# EAGLE library part MAX1811 (library dooba)
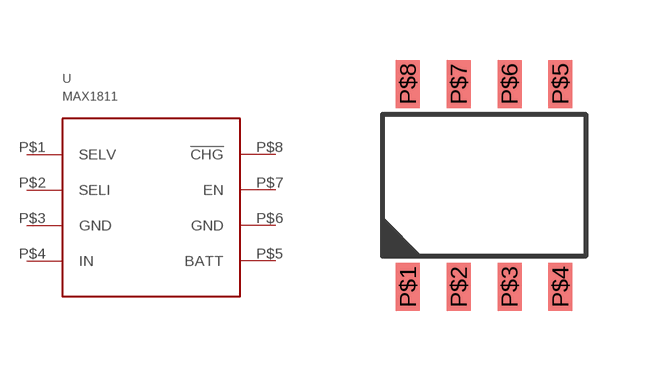
[diagram p16: symbol with the pads of SO8; footprint SO8]

Designator prefix U

## MAX1811SO8  [SO8]
P$1  SELV
P$2  SELI
P$3  GND
P$4  IN
P$5  BATT
P$6  GND
P$7  EN
P$8  !CHG

## Footprint SO8 (pad centres in mm)
smd 0.6 x 1.2: P$1 -1.905,-2.54; P$2 -0.635,-2.54; P$3 0.635,-2.54; P$4 1.905,-2.54; P$5 1.905,2.54; P$6 0.635,2.54; P$7 -0.635,2.54; P$8 -1.905,2.54